# Altium footprint library PcbLib1.PcbLib: 1 footprints
Each footprint in its own frame and in the unit in brackets; x right, y up, seen from the top. Pads: shape width x height; smd on the part's side, far side on the other; paste and mask are expansions set on the pad; w line width, h text height; cw(c..) or ccw(c..) is an arc to the next point about the centre after c.
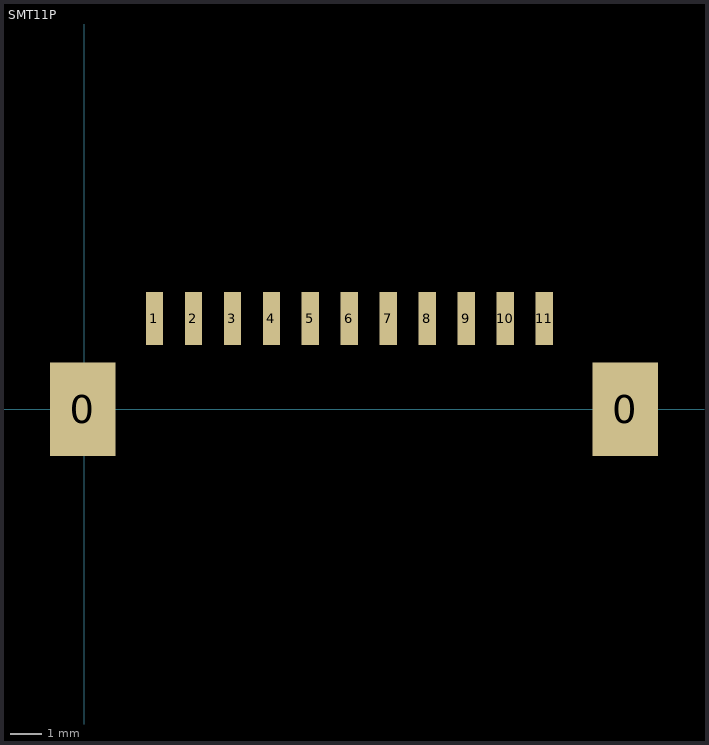
[diagram p0: the footprint, top view; thin cyan lines are the x and y axes]

## SMT11P [mm]
pads (13):
  rect 2.1x3 smd: 0(-0.05,0) 0(17.35,0)
  rect 0.55x1.7 smd: 1(2.25,2.9) 2(3.5,2.9) 3(4.75,2.9) 4(6,2.9) 5(7.25,2.9) 6(8.5,2.9) 7(9.75,2.9) 8(11,2.9) 9(12.25,2.9) 10(13.5,2.9) 11(14.75,2.9)